# Altium schematic symbol library P-MOSFET.SchLib: 1 symbol
Pins are listed as number, name and electrical type; pins without a type are passive.

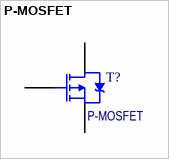
[diagram p0: symbol P-MOSFET]

## P-MOSFET
designator T?
P channel Generic MosFET; Потребление, Вт: 0,0; Назначение: P channel Generic MosFET; Наименование: P-MOSFET
footprint SO-8 Transistor; pin to pad D>3 G>1 S>2
footprint SOT-223 (SOT223, 4-Leads, Body 6,50x7,00mm (avg), Pitch 2,30mm, IPC Medium Density); pin to pad D>2+4 G>1 S>3
footprint sot-23; pin to pad D>3 G>1 S>2
pins: D DRAIN, G GATE, S SOURCE